# Altium integrated library Aker Crystals.IntLib: 1 symbol
Pins are listed as number, name and electrical type; pins without a type are passive.

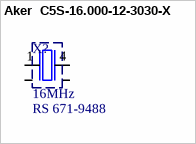
[diagram p0: symbol Aker  C5S-16.000-12-3030-X]

## Aker  C5S-16.000-12-3030-X
designator X?, comment value 16MHz  RS: RS 671-9488  (hidden comment: Aker 16MHz Crystal SMT)
Aker S5C SMT Crystal; Manufacturer Part #: C5S-16.000-12-3030-X; Load Capacitance: 12pF; Frequency Stability: +/-30ppm; Creator: R Kanjee; Manufacturer: Aker; Supplier: RS; RS Stock Nr.: 671-9488; HelpURL: http://za.rs-online.com/web/p/crystal-units/6719488/; Package: 3.2x5mm SMD
footprint Aker S5C Crystal
pins: 1, 2 Gnd (power), 3 Gnd (power), 4